# Altium schematic symbol library PTS820J15KPSMTRLFS.SchLib: 1 symbol
Pins are listed as number, name and electrical type; pins without a type are passive.

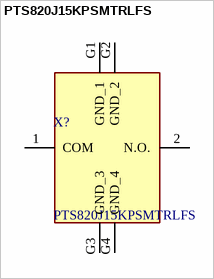
[diagram p0: symbol PTS820J15KPSMTRLFS]

## PTS820J15KPSMTRLFS
designator X?
Tactile Switches Microminiature SMT Top Actuated; Manufacturer_Name: C & K COMPONENTS; Geometry.Height: 1.5mm; Mouser Part Number: 611-PTS820J15KPSMTR; Mouser Price/Stock: https://www.mouser.co.uk/ProductDetail/CK/PTS820J15KPSMTRLFS?qs=d72FGnIDsgRkhUoD4W29wQ%3D%3D; Manufacturer_Part_Number: PTS820J15KPSMTRLFS; Datasheet Link: https://www.ckswitches.com/media/1474/pts820.pdf
footprint PTS820J15KPSMTRLFS
pins: 1 COM, 2 N.O., G1 GND_1, G2 GND_2, G3 GND_3, G4 GND_4